# Altium integrated library TI Power Management Supervisor and Reset IC.IntLib: 819 symbols (part 6 of 30)
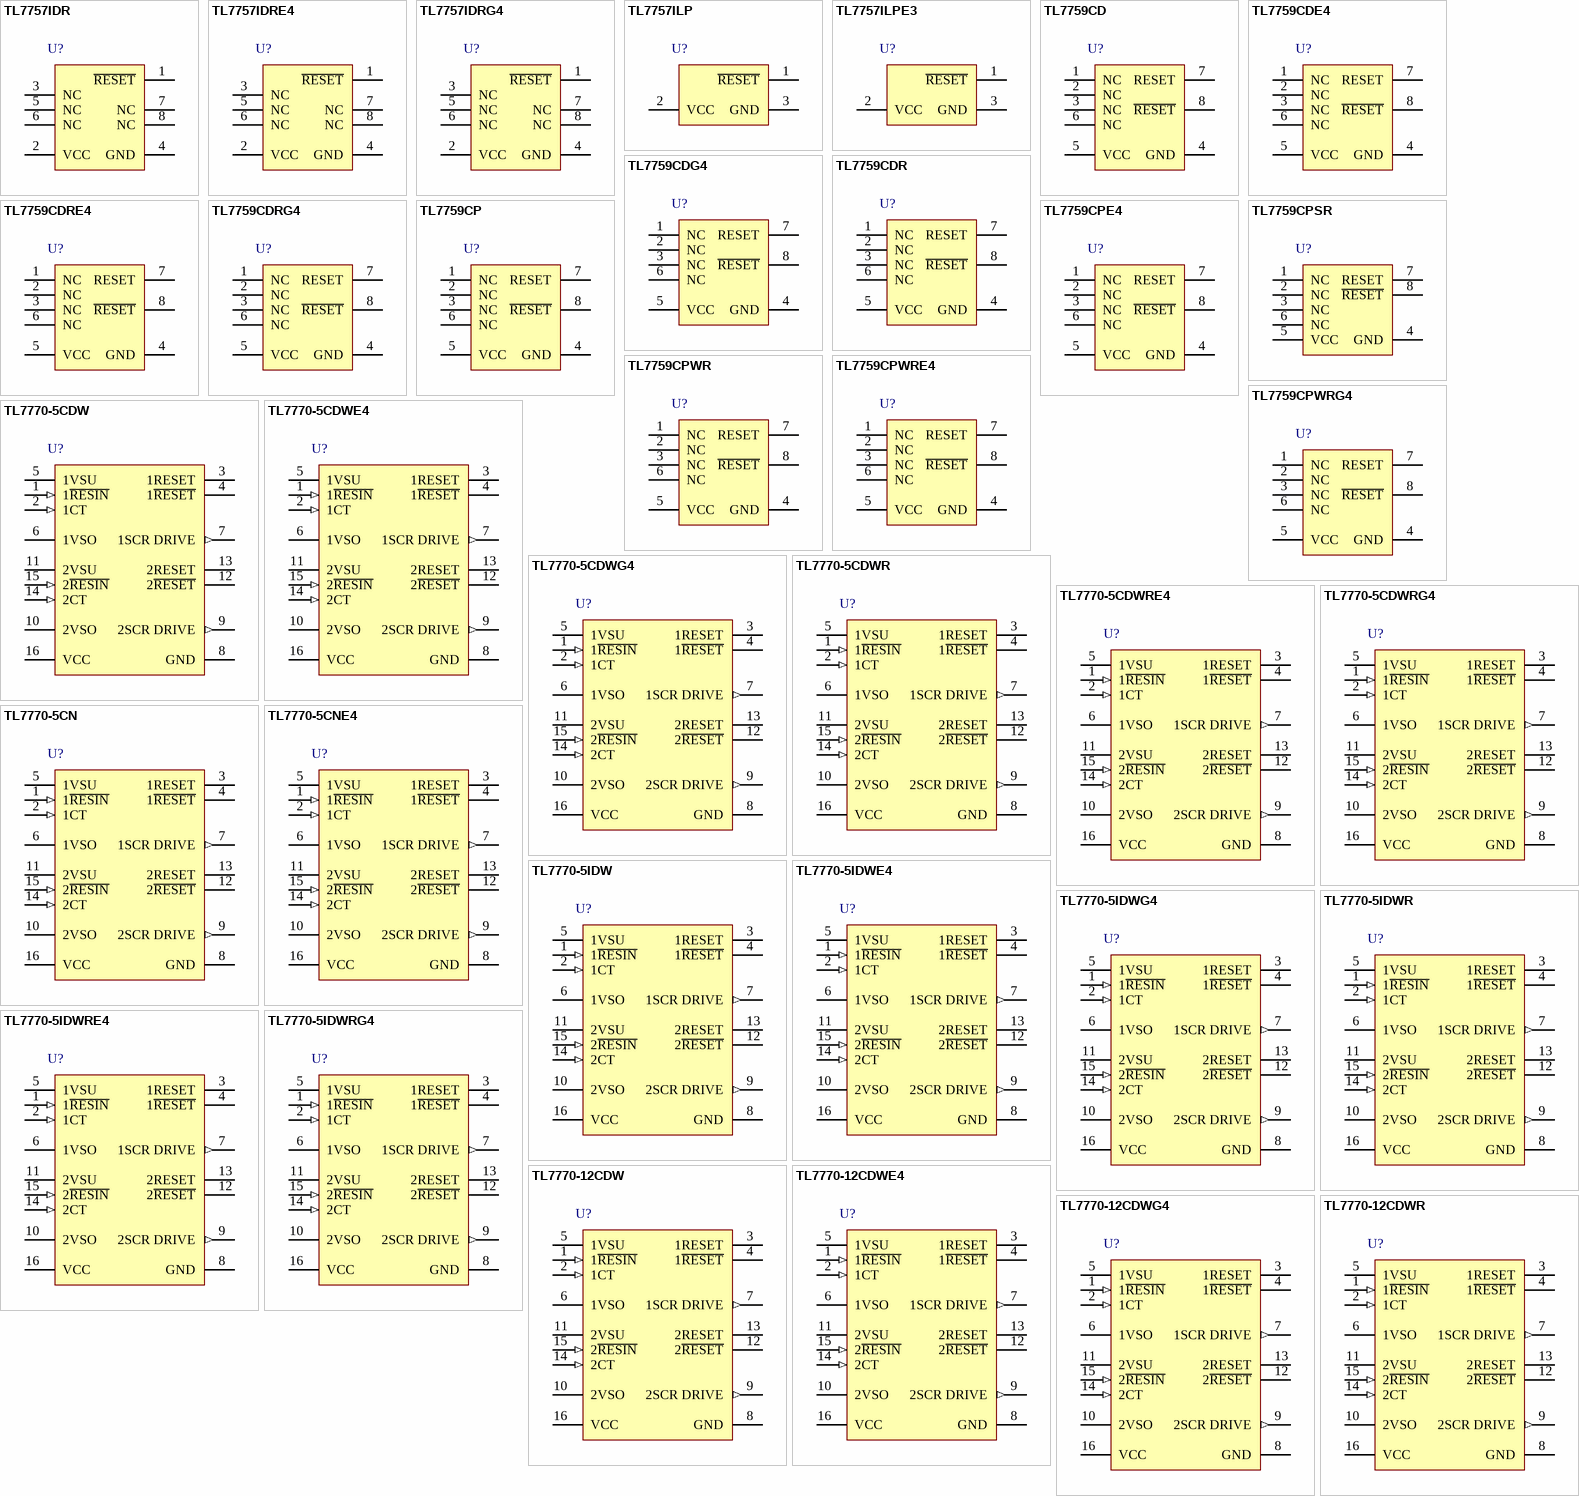
[diagram p26: symbols TL7757IDR to TL7770-12CDWR]

## TL7759CPE4
designator U?
4-Terminal Supply Voltage Supervisor for 5 V Systems, 1 Supply Monitored, 0 to 70 degC, 8-pin PDIP (P), Pb-Free (RoHS); Manufacturer: Texas Instruments; PartNumber: TL7759CPE4; # of supplies monitored: 1; Iq(Typ)(uA): 1400; Output Driver Type / Reset Output: Active-low, Open-drain, Active-high, Open-drain; Rating: Catalog; Reset Threshold Accuracy(%): 2.6; SubFamily: Supervisor and Reset IC; Threshold Voltage 1 (typ)(Typ)(V): 4.55; VCC(Max)(V): 7; DatasheetVersion: SLVS042D; PackageVersion: revE, Apr-2010; PackageReference: P8; PackageDescription: 8-Pin Plastic Dual-In-Line Package, Row Spacing 7.62 mm, Pitch 2.54 mm; Supplier 1: Digi-Key; Supplier Part Number 1: TL7759CPE4-ND; Supplier 2: Newark; Supplier Part Number 2: 63K6539; Supplier 3: Mouser; Supplier Part Number 3: 595-TL7759CPE4; VCC(Min)(V): 1; Mounting Technology: Through Hole; Code_JEDEC: MS-001-BA; ComponentLink1Description: Datasheet; ComponentLink1URL: http://www.ti.com/general/docs/lit/getliterature.tsp?genericPartNumber=TL7759&fileType=pdf
footprint P8 (DIP, 8-Leads, Row Spacing 7.62mm, Pitch 2.54mm, Body 9.6x6.4mm)
pins: 1 NC, 2 NC, 3 NC, 4 GND (power), 5 VCC (power), 6 NC, 7 RESET (oe), 8 ~{RESET} (oc)

## TL7759CPSR
designator U?
4-Terminal Supply Voltage Supervisor for 5 V Systems, 1 Supply Monitored, 0 to 70 degC, 8-pin SO (PS), Green (RoHS & no Sb/Br); Manufacturer: Texas Instruments; PartNumber: TL7759CPSR; # of supplies monitored: 1; Iq(Typ)(uA): 1400; Output Driver Type / Reset Output: Active-low, Open-drain, Active-high, Open-drain; Rating: Catalog; Reset Threshold Accuracy(%): 2.6; SubFamily: Supervisor and Reset IC; Threshold Voltage 1 (typ)(Typ)(V): 4.55; VCC(Max)(V): 7; DatasheetVersion: SLVS042D; PackageVersion: revC, Mar-2003; PackageReference: PS8; PackageDescription: 8-Pin Plastic Small Outline Package, 6.2 x 5.3 mm, Pitch 1.27 mm Pitch; Supplier 1: Digi-Key; Supplier Part Number 1: 296-29984-2-ND; Supplier 2: Digi-Key; Supplier Part Number 2: 296-29984-1-ND; Supplier 3: Digi-Key; Supplier Part Number 3: 296-29984-6-ND; Supplier 4: Newark; Supplier Part Number 4: 22H1304; Supplier 5: Mouser; Supplier Part Number 5: 595-TL7759CPSR; VCC(Min)(V): 1; Mounting Technology: Surface Mount; ComponentLink1Description: Datasheet; ComponentLink1URL: http://www.ti.com/general/docs/lit/getliterature.tsp?genericPartNumber=TL7759&fileType=pdf
footprint PS8_N (SOP, 8-Leads, Body 6.2x5.3mm, Pitch 1.27mm, IPC Medium Density)
footprint PS8_L (SOP, 8-Leads, Body 6.2x5.3mm, Pitch 1.27mm, IPC High Density)
footprint PS8_M (SOP, 8-Leads, Body 6.2x5.3mm, Pitch 1.27mm, IPC Low Density)
pins: 1 NC, 2 NC, 3 NC, 4 GND (power), 5 VCC (power), 6 NC, 7 RESET (oe), 8 ~{RESET} (oc)

## TL7759CPWR
designator U?
4-Terminal Supply Voltage Supervisor for 5 V Systems, 1 Supply Monitored, 0 to 70 degC, 8-pin TSSOP (PW), Green (RoHS & no Sb/Br); Manufacturer: Texas Instruments; PartNumber: TL7759CPWR; # of supplies monitored: 1; Iq(Typ)(uA): 1400; Output Driver Type / Reset Output: Active-low, Open-drain, Active-high, Open-drain; Rating: Catalog; Reset Threshold Accuracy(%): 2.6; SubFamily: Supervisor and Reset IC; Threshold Voltage 1 (typ)(Typ)(V): 4.55; Time Delay(ms): 0; VCC(Max)(V): 7; DatasheetVersion: SLVS042D; PackageVersion: revG, Feb-2011; PackageReference: PW8; PackageDescription: 8-Pin Plastic Thin Small Outline Package 3 x 4.4 mm Body ,0.65 mm Pitch; Supplier 1: Digi-Key; Supplier Part Number 1: 296-1299-2-ND; Supplier 2: Digi-Key; Supplier Part Number 2: 296-1299-1-ND; Supplier 3: Digi-Key; Supplier Part Number 3: 296-1299-6-ND; Supplier 4: Mouser; Supplier Part Number 4: 595-TL7759CPWR; VCC(Min)(V): 1; Mounting Technology: Surface Mount; Code_JEDEC: MO-153; ComponentLink1Description: Datasheet; ComponentLink1URL: http://www.ti.com/general/docs/lit/getliterature.tsp?genericPartNumber=TL7759&fileType=pdf
footprint PW8_N (TSOP, 8-Leads, Body 3x4.4mm, Pitch 0.65mm, IPC Medium Density)
footprint PW8_L (TSOP, 8-Leads, Body 3x4.4mm, Pitch 0.65mm, IPC High Density)
footprint PW8_M (TSOP, 8-Leads, Body 3x4.4mm, Pitch 0.65mm, IPC Low Density)
pins: 1 NC, 2 NC, 3 NC, 4 GND (power), 5 VCC (power), 6 NC, 7 RESET (oe), 8 ~{RESET} (oc)

## TL7759CPWRE4
designator U?
4-Terminal Supply Voltage Supervisor for 5 V Systems, 1 Supply Monitored, 0 to 70 degC, 8-pin TSSOP (PW), Green (RoHS & no Sb/Br); Manufacturer: Texas Instruments; PartNumber: TL7759CPWRE4; # of supplies monitored: 1; Iq(Typ)(uA): 1400; Output Driver Type / Reset Output: Active-low, Open-drain, Active-high, Open-drain; Rating: Catalog; Reset Threshold Accuracy(%): 2.6; SubFamily: Supervisor and Reset IC; Threshold Voltage 1 (typ)(Typ)(V): 4.55; Time Delay(ms): 0; VCC(Max)(V): 7; DatasheetVersion: SLVS042D; PackageVersion: revG, Feb-2011; PackageReference: PW8; PackageDescription: 8-Pin Plastic Thin Small Outline Package 3 x 4.4 mm Body ,0.65 mm Pitch; Supplier 1: Digi-Key; Supplier Part Number 1: TL7759CPWRE4-ND; Supplier 2: Newark; Supplier Part Number 2: 33K7484; Supplier 3: Mouser; Supplier Part Number 3: 595-TL7759CPWRE4; VCC(Min)(V): 1; Mounting Technology: Surface Mount; Code_JEDEC: MO-153; ComponentLink1Description: Datasheet; ComponentLink1URL: http://www.ti.com/general/docs/lit/getliterature.tsp?genericPartNumber=TL7759&fileType=pdf
footprint PW8_N (TSOP, 8-Leads, Body 3x4.4mm, Pitch 0.65mm, IPC Medium Density)
footprint PW8_L (TSOP, 8-Leads, Body 3x4.4mm, Pitch 0.65mm, IPC High Density)
footprint PW8_M (TSOP, 8-Leads, Body 3x4.4mm, Pitch 0.65mm, IPC Low Density)
pins: 1 NC, 2 NC, 3 NC, 4 GND (power), 5 VCC (power), 6 NC, 7 RESET (oe), 8 ~{RESET} (oc)

## TL7759CPWRG4
designator U?
4-Terminal Supply Voltage Supervisor for 5 V Systems, 1 Supply Monitored, 0 to 70 degC, 8-pin TSSOP (PW), Green (RoHS & no Sb/Br); Manufacturer: Texas Instruments; PartNumber: TL7759CPWRG4; # of supplies monitored: 1; Iq(Typ)(uA): 1400; Output Driver Type / Reset Output: Active-low, Open-drain, Active-high, Open-drain; Rating: Catalog; Reset Threshold Accuracy(%): 2.6; SubFamily: Supervisor and Reset IC; Threshold Voltage 1 (typ)(Typ)(V): 4.55; Time Delay(ms): 0; VCC(Max)(V): 7; DatasheetVersion: SLVS042D; PackageVersion: revG, Feb-2011; PackageReference: PW8; PackageDescription: 8-Pin Plastic Thin Small Outline Package 3 x 4.4 mm Body ,0.65 mm Pitch; Supplier 1: Digi-Key; Supplier Part Number 1: TL7759CPWRG4-ND; Supplier 2: Newark; Supplier Part Number 2: 46M9300; Supplier 3: Mouser; Supplier Part Number 3: 595-TL7759CPWRG4; VCC(Min)(V): 1; Mounting Technology: Surface Mount; Code_JEDEC: MO-153; ComponentLink1Description: Datasheet; ComponentLink1URL: http://www.ti.com/general/docs/lit/getliterature.tsp?genericPartNumber=TL7759&fileType=pdf
footprint PW8_N (TSOP, 8-Leads, Body 3x4.4mm, Pitch 0.65mm, IPC Medium Density)
footprint PW8_L (TSOP, 8-Leads, Body 3x4.4mm, Pitch 0.65mm, IPC High Density)
footprint PW8_M (TSOP, 8-Leads, Body 3x4.4mm, Pitch 0.65mm, IPC Low Density)
pins: 1 NC, 2 NC, 3 NC, 4 GND (power), 5 VCC (power), 6 NC, 7 RESET (oe), 8 ~{RESET} (oc)

## TL7770-5CDW
designator U?
Dual Power-Supply Supervisor, 5 V & Adjustable with Programmable Time Delay, 0 to 70 degC, 16-pin SOIC (DW), Green (RoHS & no Sb/Br); Manufacturer: Texas Instruments; PartNumber: TL7770-5CDW; # of supplies monitored: 2; Iq(Typ)(uA): 5000; Output Driver Type / Reset Output: Active-low, Open-drain; Rating: Military; SubFamily: Supervisor and Reset IC; Threshold Voltage 1 (typ)(Typ)(V): 4.55; Threshold Voltage 2 (typ)(Typ)(V): 1.5; VCC(Max)(V): 18; VCC(Min)(V): 3.5; DatasheetVersion: SLVS019F; PackageVersion: revG, Jan-2011; PackageReference: DW16; PackageDescription: 16-Pin Small Outline Integrated Circuit, 10.3 x 7.5 mm, Pitch 1.27 mm Pitch; Supplier 1: Digi-Key; Supplier Part Number 1: 296-3265-5-ND; Supplier 2: Newark; Supplier Part Number 2: 76C9386; Supplier 3: Mouser; Supplier Part Number 3: 595-TL7770-5CDW; Reset Threshold Accuracy(%): 2; Time Delay(ms): Programmable; Mounting Technology: Surface Mount; Code_JEDEC: MS-013-AA; ComponentLink1Description: Datasheet; ComponentLink1URL: http://www.ti.com/general/docs/lit/getliterature.tsp?genericPartNumber=TL7770-5&fileType=pdf
footprint DW16_N (SOIC, 16-Leads, Body 10.3x7.5mm, Pitch 1.27mm, IPC Medium Density)
footprint DW16_L (SOIC, 16-Leads, Body 10.3x7.5mm, Pitch 1.27mm, IPC High Density)
footprint DW16_M (SOIC, 16-Leads, Body 10.3x7.5mm, Pitch 1.27mm, IPC Low Density)
pins: 1 1~{RESIN} (in), 2 1CT (in), 3 1RESET (oe), 4 1~{RESET} (oc), 5 1VSU (power), 6 1VSO (power), 7 1SCR DRIVE (out), 8 GND (power), 9 2SCR DRIVE (out), 10 2VSO (power), 11 2VSU (power), 12 2~{RESET} (oc), 13 2RESET (oe), 14 2CT (in), 15 2~{RESIN} (in), 16 VCC (power)

## TL7770-5CDWE4
designator U?
Dual Power-Supply Supervisor, 5 V & Adjustable with Programmable Time Delay, 0 to 70 degC, 16-pin SOIC (DW), Green (RoHS & no Sb/Br); Manufacturer: Texas Instruments; PartNumber: TL7770-5CDWE4; # of supplies monitored: 2; Iq(Typ)(uA): 5000; Output Driver Type / Reset Output: Active-low, Open-drain; Rating: Military; SubFamily: Supervisor and Reset IC; Threshold Voltage 1 (typ)(Typ)(V): 4.55; Threshold Voltage 2 (typ)(Typ)(V): 1.5; VCC(Max)(V): 18; VCC(Min)(V): 3.5; DatasheetVersion: SLVS019F; PackageVersion: revG, Jan-2011; PackageReference: DW16; PackageDescription: 16-Pin Small Outline Integrated Circuit, 10.3 x 7.5 mm, Pitch 1.27 mm Pitch; Supplier 1: Digi-Key; Supplier Part Number 1: TL7770-5CDWE4-ND; Supplier 2: Newark; Supplier Part Number 2: 37K4617; Supplier 3: Mouser; Supplier Part Number 3: 595-TL7770-5CDWE4; Reset Threshold Accuracy(%): 2; Time Delay(ms): Programmable; Mounting Technology: Surface Mount; Code_JEDEC: MS-013-AA; ComponentLink1Description: Datasheet; ComponentLink1URL: http://www.ti.com/general/docs/lit/getliterature.tsp?genericPartNumber=TL7770-5&fileType=pdf
footprint DW16_N (SOIC, 16-Leads, Body 10.3x7.5mm, Pitch 1.27mm, IPC Medium Density)
footprint DW16_L (SOIC, 16-Leads, Body 10.3x7.5mm, Pitch 1.27mm, IPC High Density)
footprint DW16_M (SOIC, 16-Leads, Body 10.3x7.5mm, Pitch 1.27mm, IPC Low Density)
pins: 1 1~{RESIN} (in), 2 1CT (in), 3 1RESET (oe), 4 1~{RESET} (oc), 5 1VSU (power), 6 1VSO (power), 7 1SCR DRIVE (out), 8 GND (power), 9 2SCR DRIVE (out), 10 2VSO (power), 11 2VSU (power), 12 2~{RESET} (oc), 13 2RESET (oe), 14 2CT (in), 15 2~{RESIN} (in), 16 VCC (power)

## TL7770-5CDWG4
designator U?
Dual Power-Supply Supervisor, 5 V & Adjustable with Programmable Time Delay, 0 to 70 degC, 16-pin SOIC (DW), Green (RoHS & no Sb/Br); Manufacturer: Texas Instruments; PartNumber: TL7770-5CDWG4; # of supplies monitored: 2; Iq(Typ)(uA): 5000; Output Driver Type / Reset Output: Active-low, Open-drain; Rating: Military; SubFamily: Supervisor and Reset IC; Threshold Voltage 1 (typ)(Typ)(V): 4.55; Threshold Voltage 2 (typ)(Typ)(V): 1.5; VCC(Max)(V): 18; VCC(Min)(V): 3.5; DatasheetVersion: SLVS019F; PackageVersion: revG, Jan-2011; PackageReference: DW16; PackageDescription: 16-Pin Small Outline Integrated Circuit, 10.3 x 7.5 mm, Pitch 1.27 mm Pitch; Supplier 1: Digi-Key; Supplier Part Number 1: TL7770-5CDWG4-ND; Supplier 2: Newark; Supplier Part Number 2: 46M1065; Supplier 3: Mouser; Supplier Part Number 3: 595-TL7770-5CDWG4; Reset Threshold Accuracy(%): 2; Time Delay(ms): Programmable; Mounting Technology: Surface Mount; Code_JEDEC: MS-013-AA; ComponentLink1Description: Datasheet; ComponentLink1URL: http://www.ti.com/general/docs/lit/getliterature.tsp?genericPartNumber=TL7770-5&fileType=pdf
footprint DW16_N (SOIC, 16-Leads, Body 10.3x7.5mm, Pitch 1.27mm, IPC Medium Density)
footprint DW16_L (SOIC, 16-Leads, Body 10.3x7.5mm, Pitch 1.27mm, IPC High Density)
footprint DW16_M (SOIC, 16-Leads, Body 10.3x7.5mm, Pitch 1.27mm, IPC Low Density)
pins: 1 1~{RESIN} (in), 2 1CT (in), 3 1RESET (oe), 4 1~{RESET} (oc), 5 1VSU (power), 6 1VSO (power), 7 1SCR DRIVE (out), 8 GND (power), 9 2SCR DRIVE (out), 10 2VSO (power), 11 2VSU (power), 12 2~{RESET} (oc), 13 2RESET (oe), 14 2CT (in), 15 2~{RESIN} (in), 16 VCC (power)

## TL7770-5CDWR
designator U?
Dual Power-Supply Supervisor, 5 V & Adjustable with Programmable Time Delay, 0 to 70 degC, 16-pin SOIC (DW), Green (RoHS & no Sb/Br); Manufacturer: Texas Instruments; PartNumber: TL7770-5CDWR; # of supplies monitored: 2; Iq(Typ)(uA): 5000; Output Driver Type / Reset Output: Active-low, Open-drain; Rating: Military; SubFamily: Supervisor and Reset IC; Threshold Voltage 1 (typ)(Typ)(V): 4.55; Threshold Voltage 2 (typ)(Typ)(V): 1.5; VCC(Max)(V): 18; VCC(Min)(V): 3.5; DatasheetVersion: SLVS019F; PackageVersion: revG, Jan-2011; PackageReference: DW16; PackageDescription: 16-Pin Small Outline Integrated Circuit, 10.3 x 7.5 mm, Pitch 1.27 mm Pitch; Supplier 1: Digi-Key; Supplier Part Number 1: 296-15024-2-ND; Supplier 2: Digi-Key; Supplier Part Number 2: 296-15024-1-ND; Supplier 3: Digi-Key; Supplier Part Number 3: 296-15024-6-ND; Supplier 4: Newark; Supplier Part Number 4: 76C9387; Supplier 5: Mouser; Supplier Part Number 5: 595-TL7770-5CDWR; Reset Threshold Accuracy(%): 2; Time Delay(ms): Programmable; Mounting Technology: Surface Mount; Code_JEDEC: MS-013-AA; ComponentLink1Description: Datasheet; ComponentLink1URL: http://www.ti.com/general/docs/lit/getliterature.tsp?genericPartNumber=TL7770-5&fileType=pdf
footprint DW16_N (SOIC, 16-Leads, Body 10.3x7.5mm, Pitch 1.27mm, IPC Medium Density)
footprint DW16_L (SOIC, 16-Leads, Body 10.3x7.5mm, Pitch 1.27mm, IPC High Density)
footprint DW16_M (SOIC, 16-Leads, Body 10.3x7.5mm, Pitch 1.27mm, IPC Low Density)
pins: 1 1~{RESIN} (in), 2 1CT (in), 3 1RESET (oe), 4 1~{RESET} (oc), 5 1VSU (power), 6 1VSO (power), 7 1SCR DRIVE (out), 8 GND (power), 9 2SCR DRIVE (out), 10 2VSO (power), 11 2VSU (power), 12 2~{RESET} (oc), 13 2RESET (oe), 14 2CT (in), 15 2~{RESIN} (in), 16 VCC (power)

## TL7770-5CDWRE4
designator U?
Dual Power-Supply Supervisor, 5 V & Adjustable with Programmable Time Delay, 0 to 70 degC, 16-pin SOIC (DW), Green (RoHS & no Sb/Br); Manufacturer: Texas Instruments; PartNumber: TL7770-5CDWRE4; # of supplies monitored: 2; Iq(Typ)(uA): 5000; Output Driver Type / Reset Output: Active-low, Open-drain; Rating: Military; SubFamily: Supervisor and Reset IC; Threshold Voltage 1 (typ)(Typ)(V): 4.55; Threshold Voltage 2 (typ)(Typ)(V): 1.5; VCC(Max)(V): 18; VCC(Min)(V): 3.5; DatasheetVersion: SLVS019F; PackageVersion: revG, Jan-2011; PackageReference: DW16; PackageDescription: 16-Pin Small Outline Integrated Circuit, 10.3 x 7.5 mm, Pitch 1.27 mm Pitch; Supplier 1: Digi-Key; Supplier Part Number 1: TL7770-5CDWRE4-ND; Supplier 2: Newark; Supplier Part Number 2: 37K4618; Supplier 3: Mouser; Supplier Part Number 3: 595-TL7770-5CDWRE4; Reset Threshold Accuracy(%): 2; Time Delay(ms): Programmable; Mounting Technology: Surface Mount; Code_JEDEC: MS-013-AA; ComponentLink1Description: Datasheet; ComponentLink1URL: http://www.ti.com/general/docs/lit/getliterature.tsp?genericPartNumber=TL7770-5&fileType=pdf
footprint DW16_N (SOIC, 16-Leads, Body 10.3x7.5mm, Pitch 1.27mm, IPC Medium Density)
footprint DW16_L (SOIC, 16-Leads, Body 10.3x7.5mm, Pitch 1.27mm, IPC High Density)
footprint DW16_M (SOIC, 16-Leads, Body 10.3x7.5mm, Pitch 1.27mm, IPC Low Density)
pins: 1 1~{RESIN} (in), 2 1CT (in), 3 1RESET (oe), 4 1~{RESET} (oc), 5 1VSU (power), 6 1VSO (power), 7 1SCR DRIVE (out), 8 GND (power), 9 2SCR DRIVE (out), 10 2VSO (power), 11 2VSU (power), 12 2~{RESET} (oc), 13 2RESET (oe), 14 2CT (in), 15 2~{RESIN} (in), 16 VCC (power)

## TL7770-5CDWRG4
designator U?
Dual Power-Supply Supervisor, 5 V & Adjustable with Programmable Time Delay, 0 to 70 degC, 16-pin SOIC (DW), Green (RoHS & no Sb/Br); Manufacturer: Texas Instruments; PartNumber: TL7770-5CDWRG4; # of supplies monitored: 2; Iq(Typ)(uA): 5000; Output Driver Type / Reset Output: Active-low, Open-drain; Rating: Military; SubFamily: Supervisor and Reset IC; Threshold Voltage 1 (typ)(Typ)(V): 4.55; Threshold Voltage 2 (typ)(Typ)(V): 1.5; VCC(Max)(V): 18; VCC(Min)(V): 3.5; DatasheetVersion: SLVS019F; PackageVersion: revG, Jan-2011; PackageReference: DW16; PackageDescription: 16-Pin Small Outline Integrated Circuit, 10.3 x 7.5 mm, Pitch 1.27 mm Pitch; Supplier 1: Digi-Key; Supplier Part Number 1: TL7770-5CDWRG4-ND; Supplier 2: Newark; Supplier Part Number 2: 46M1066; Supplier 3: Mouser; Supplier Part Number 3: 595-TL7770-5CDWRG4; Reset Threshold Accuracy(%): 2; Time Delay(ms): Programmable; Mounting Technology: Surface Mount; Code_JEDEC: MS-013-AA; ComponentLink1Description: Datasheet; ComponentLink1URL: http://www.ti.com/general/docs/lit/getliterature.tsp?genericPartNumber=TL7770-5&fileType=pdf
footprint DW16_N (SOIC, 16-Leads, Body 10.3x7.5mm, Pitch 1.27mm, IPC Medium Density)
footprint DW16_L (SOIC, 16-Leads, Body 10.3x7.5mm, Pitch 1.27mm, IPC High Density)
footprint DW16_M (SOIC, 16-Leads, Body 10.3x7.5mm, Pitch 1.27mm, IPC Low Density)
pins: 1 1~{RESIN} (in), 2 1CT (in), 3 1RESET (oe), 4 1~{RESET} (oc), 5 1VSU (power), 6 1VSO (power), 7 1SCR DRIVE (out), 8 GND (power), 9 2SCR DRIVE (out), 10 2VSO (power), 11 2VSU (power), 12 2~{RESET} (oc), 13 2RESET (oe), 14 2CT (in), 15 2~{RESIN} (in), 16 VCC (power)

## TL7770-5CN
designator U?
Dual Power-Supply Supervisor, 5 V & Adjustable with Programmable Time Delay, 0 to 70 degC, 16-pin PDIP (N), Pb-Free (RoHS); Manufacturer: Texas Instruments; PartNumber: TL7770-5CN; # of supplies monitored: 2; Iq(Typ)(uA): 5000; Output Driver Type / Reset Output: Active-low, Open-drain; Rating: Military; SubFamily: Supervisor and Reset IC; Threshold Voltage 1 (typ)(Typ)(V): 4.55; Threshold Voltage 2 (typ)(Typ)(V): 1.5; VCC(Max)(V): 18; VCC(Min)(V): 3.5; DatasheetVersion: SLVS019F; PackageVersion: revE, Dec-2002; PackageReference: N16; PackageDescription: 16-Pin Plastic Dual-In-Line Package, Row Spacing 7.62 mm, Pitch 2.54 mm; Supplier 1: Digi-Key; Supplier Part Number 1: 296-3266-5-ND; Supplier 2: Newark; Supplier Part Number 2: 76C9388; Supplier 3: Mouser; Supplier Part Number 3: 595-TL7770-5CN; Reset Threshold Accuracy(%): 2; Time Delay(ms): Programmable; Mounting Technology: Through Hole; Code_JEDEC: MS-001*; ComponentLink1Description: Datasheet; ComponentLink1URL: http://www.ti.com/general/docs/lit/getliterature.tsp?genericPartNumber=TL7770-5&fileType=pdf
footprint N16 (DIP, 16-Leads, Row Spacing 7.62mm, Pitch 2.54mm, Body 19.3x6.4mm)
pins: 1 1~{RESIN} (in), 2 1CT (in), 3 1RESET (oe), 4 1~{RESET} (oc), 5 1VSU (power), 6 1VSO (power), 7 1SCR DRIVE (out), 8 GND (power), 9 2SCR DRIVE (out), 10 2VSO (power), 11 2VSU (power), 12 2~{RESET} (oc), 13 2RESET (oe), 14 2CT (in), 15 2~{RESIN} (in), 16 VCC (power)

## TL7770-5CNE4
designator U?
Dual Power-Supply Supervisor, 5 V & Adjustable with Programmable Time Delay, 0 to 70 degC, 16-pin PDIP (N), Pb-Free (RoHS); Manufacturer: Texas Instruments; PartNumber: TL7770-5CNE4; # of supplies monitored: 2; Iq(Typ)(uA): 5000; Output Driver Type / Reset Output: Active-low, Open-drain; Rating: Military; SubFamily: Supervisor and Reset IC; Threshold Voltage 1 (typ)(Typ)(V): 4.55; Threshold Voltage 2 (typ)(Typ)(V): 1.5; VCC(Max)(V): 18; VCC(Min)(V): 3.5; DatasheetVersion: SLVS019F; PackageVersion: revE, Dec-2002; PackageReference: N16; PackageDescription: 16-Pin Plastic Dual-In-Line Package, Row Spacing 7.62 mm, Pitch 2.54 mm; Supplier 1: Digi-Key; Supplier Part Number 1: TL7770-5CNE4-ND; Supplier 2: Farnell; Supplier Part Number 2: 1214406; Supplier 3: Newark; Supplier Part Number 3: 37K4619; Supplier 4: Mouser; Supplier Part Number 4: 595-TL7770-5CNE4; Reset Threshold Accuracy(%): 2; Time Delay(ms): Programmable; Mounting Technology: Through Hole; Code_JEDEC: MS-001*; ComponentLink1Description: Datasheet; ComponentLink1URL: http://www.ti.com/general/docs/lit/getliterature.tsp?genericPartNumber=TL7770-5&fileType=pdf
footprint N16 (DIP, 16-Leads, Row Spacing 7.62mm, Pitch 2.54mm, Body 19.3x6.4mm)
pins: 1 1~{RESIN} (in), 2 1CT (in), 3 1RESET (oe), 4 1~{RESET} (oc), 5 1VSU (power), 6 1VSO (power), 7 1SCR DRIVE (out), 8 GND (power), 9 2SCR DRIVE (out), 10 2VSO (power), 11 2VSU (power), 12 2~{RESET} (oc), 13 2RESET (oe), 14 2CT (in), 15 2~{RESIN} (in), 16 VCC (power)

## TL7770-5IDW
designator U?
Dual Power-Supply Supervisor, 5 V & Adjustable with Programmable Time Delay, -40 to 85 degC, 16-pin SOIC (DW), Green (RoHS & no Sb/Br); Manufacturer: Texas Instruments; PartNumber: TL7770-5IDW; # of supplies monitored: 2; Iq(Typ)(uA): 5000; Output Driver Type / Reset Output: Active-low, Open-drain; Rating: Military; SubFamily: Supervisor and Reset IC; Threshold Voltage 1 (typ)(Typ)(V): 4.55; Threshold Voltage 2 (typ)(Typ)(V): 1.5; VCC(Max)(V): 18; VCC(Min)(V): 3.5; DatasheetVersion: SLVS019F; PackageVersion: revG, Jan-2011; PackageReference: DW16; PackageDescription: 16-Pin Small Outline Integrated Circuit, 10.3 x 7.5 mm, Pitch 1.27 mm Pitch; Supplier 1: Digi-Key; Supplier Part Number 1: 296-3267-5-ND; Supplier 2: Newark; Supplier Part Number 2: 76C9389; Supplier 3: Mouser; Supplier Part Number 3: 595-TL7770-5IDW; Reset Threshold Accuracy(%): 2; Time Delay(ms): Programmable; Mounting Technology: Surface Mount; Code_JEDEC: MS-013-AA; ComponentLink1Description: Datasheet; ComponentLink1URL: http://www.ti.com/general/docs/lit/getliterature.tsp?genericPartNumber=TL7770-5&fileType=pdf
footprint DW16_N (SOIC, 16-Leads, Body 10.3x7.5mm, Pitch 1.27mm, IPC Medium Density)
footprint DW16_L (SOIC, 16-Leads, Body 10.3x7.5mm, Pitch 1.27mm, IPC High Density)
footprint DW16_M (SOIC, 16-Leads, Body 10.3x7.5mm, Pitch 1.27mm, IPC Low Density)
pins: 1 1~{RESIN} (in), 2 1CT (in), 3 1RESET (oe), 4 1~{RESET} (oc), 5 1VSU (power), 6 1VSO (power), 7 1SCR DRIVE (out), 8 GND (power), 9 2SCR DRIVE (out), 10 2VSO (power), 11 2VSU (power), 12 2~{RESET} (oc), 13 2RESET (oe), 14 2CT (in), 15 2~{RESIN} (in), 16 VCC (power)

## TL7770-5IDWE4
designator U?
Dual Power-Supply Supervisor, 5 V & Adjustable with Programmable Time Delay, -40 to 85 degC, 16-pin SOIC (DW), Green (RoHS & no Sb/Br); Manufacturer: Texas Instruments; PartNumber: TL7770-5IDWE4; # of supplies monitored: 2; Iq(Typ)(uA): 5000; Output Driver Type / Reset Output: Active-low, Open-drain; Rating: Military; SubFamily: Supervisor and Reset IC; Threshold Voltage 1 (typ)(Typ)(V): 4.55; Threshold Voltage 2 (typ)(Typ)(V): 1.5; VCC(Max)(V): 18; VCC(Min)(V): 3.5; DatasheetVersion: SLVS019F; PackageVersion: revG, Jan-2011; PackageReference: DW16; PackageDescription: 16-Pin Small Outline Integrated Circuit, 10.3 x 7.5 mm, Pitch 1.27 mm Pitch; Supplier 1: Digi-Key; Supplier Part Number 1: TL7770-5IDWE4-ND; Supplier 2: Newark; Supplier Part Number 2: 37K4620; Supplier 3: Mouser; Supplier Part Number 3: 595-TL7770-5IDWE4; Reset Threshold Accuracy(%): 2; Time Delay(ms): Programmable; Mounting Technology: Surface Mount; Code_JEDEC: MS-013-AA; ComponentLink1Description: Datasheet; ComponentLink1URL: http://www.ti.com/general/docs/lit/getliterature.tsp?genericPartNumber=TL7770-5&fileType=pdf
footprint DW16_N (SOIC, 16-Leads, Body 10.3x7.5mm, Pitch 1.27mm, IPC Medium Density)
footprint DW16_L (SOIC, 16-Leads, Body 10.3x7.5mm, Pitch 1.27mm, IPC High Density)
footprint DW16_M (SOIC, 16-Leads, Body 10.3x7.5mm, Pitch 1.27mm, IPC Low Density)
pins: 1 1~{RESIN} (in), 2 1CT (in), 3 1RESET (oe), 4 1~{RESET} (oc), 5 1VSU (power), 6 1VSO (power), 7 1SCR DRIVE (out), 8 GND (power), 9 2SCR DRIVE (out), 10 2VSO (power), 11 2VSU (power), 12 2~{RESET} (oc), 13 2RESET (oe), 14 2CT (in), 15 2~{RESIN} (in), 16 VCC (power)

## TL7770-5IDWG4
designator U?
Dual Power-Supply Supervisor, 5 V & Adjustable with Programmable Time Delay, -40 to 85 degC, 16-pin SOIC (DW), Green (RoHS & no Sb/Br); Manufacturer: Texas Instruments; PartNumber: TL7770-5IDWG4; # of supplies monitored: 2; Iq(Typ)(uA): 5000; Output Driver Type / Reset Output: Active-low, Open-drain; Rating: Military; SubFamily: Supervisor and Reset IC; Threshold Voltage 1 (typ)(Typ)(V): 4.55; Threshold Voltage 2 (typ)(Typ)(V): 1.5; VCC(Max)(V): 18; VCC(Min)(V): 3.5; DatasheetVersion: SLVS019F; PackageVersion: revG, Jan-2011; PackageReference: DW16; PackageDescription: 16-Pin Small Outline Integrated Circuit, 10.3 x 7.5 mm, Pitch 1.27 mm Pitch; Supplier 1: Digi-Key; Supplier Part Number 1: TL7770-5IDWG4-ND; Supplier 2: Newark; Supplier Part Number 2: 46M1067; Supplier 3: Mouser; Supplier Part Number 3: 595-TL7770-5IDWG4; Reset Threshold Accuracy(%): 2; Time Delay(ms): Programmable; Mounting Technology: Surface Mount; Code_JEDEC: MS-013-AA; ComponentLink1Description: Datasheet; ComponentLink1URL: http://www.ti.com/general/docs/lit/getliterature.tsp?genericPartNumber=TL7770-5&fileType=pdf
footprint DW16_N (SOIC, 16-Leads, Body 10.3x7.5mm, Pitch 1.27mm, IPC Medium Density)
footprint DW16_L (SOIC, 16-Leads, Body 10.3x7.5mm, Pitch 1.27mm, IPC High Density)
footprint DW16_M (SOIC, 16-Leads, Body 10.3x7.5mm, Pitch 1.27mm, IPC Low Density)
pins: 1 1~{RESIN} (in), 2 1CT (in), 3 1RESET (oe), 4 1~{RESET} (oc), 5 1VSU (power), 6 1VSO (power), 7 1SCR DRIVE (out), 8 GND (power), 9 2SCR DRIVE (out), 10 2VSO (power), 11 2VSU (power), 12 2~{RESET} (oc), 13 2RESET (oe), 14 2CT (in), 15 2~{RESIN} (in), 16 VCC (power)

## TL7770-5IDWR
designator U?
Dual Power-Supply Supervisor, 5 V & Adjustable with Programmable Time Delay, -40 to 85 degC, 16-pin SOIC (DW), Green (RoHS & no Sb/Br); Manufacturer: Texas Instruments; PartNumber: TL7770-5IDWR; # of supplies monitored: 2; Iq(Typ)(uA): 5000; Output Driver Type / Reset Output: Active-low, Open-drain; Rating: Military; SubFamily: Supervisor and Reset IC; Threshold Voltage 1 (typ)(Typ)(V): 4.55; Threshold Voltage 2 (typ)(Typ)(V): 1.5; VCC(Max)(V): 18; VCC(Min)(V): 3.5; DatasheetVersion: SLVS019F; PackageVersion: revG, Jan-2011; PackageReference: DW16; PackageDescription: 16-Pin Small Outline Integrated Circuit, 10.3 x 7.5 mm, Pitch 1.27 mm Pitch; Supplier 1: Digi-Key; Supplier Part Number 1: TL7770-5IDWR-ND; Supplier 2: Newark; Supplier Part Number 2: 50B7919; Supplier 3: Mouser; Supplier Part Number 3: 595-TL7770-5IDWR; Reset Threshold Accuracy(%): 2; Time Delay(ms): Programmable; Mounting Technology: Surface Mount; Code_JEDEC: MS-013-AA; ComponentLink1Description: Datasheet; ComponentLink1URL: http://www.ti.com/general/docs/lit/getliterature.tsp?genericPartNumber=TL7770-5&fileType=pdf
footprint DW16_N (SOIC, 16-Leads, Body 10.3x7.5mm, Pitch 1.27mm, IPC Medium Density)
footprint DW16_L (SOIC, 16-Leads, Body 10.3x7.5mm, Pitch 1.27mm, IPC High Density)
footprint DW16_M (SOIC, 16-Leads, Body 10.3x7.5mm, Pitch 1.27mm, IPC Low Density)
pins: 1 1~{RESIN} (in), 2 1CT (in), 3 1RESET (oe), 4 1~{RESET} (oc), 5 1VSU (power), 6 1VSO (power), 7 1SCR DRIVE (out), 8 GND (power), 9 2SCR DRIVE (out), 10 2VSO (power), 11 2VSU (power), 12 2~{RESET} (oc), 13 2RESET (oe), 14 2CT (in), 15 2~{RESIN} (in), 16 VCC (power)

## TL7770-5IDWRE4
designator U?
Dual Power-Supply Supervisor, 5 V & Adjustable with Programmable Time Delay, -40 to 85 degC, 16-pin SOIC (DW), Green (RoHS & no Sb/Br); Manufacturer: Texas Instruments; PartNumber: TL7770-5IDWRE4; # of supplies monitored: 2; Iq(Typ)(uA): 5000; Output Driver Type / Reset Output: Active-low, Open-drain; Rating: Military; SubFamily: Supervisor and Reset IC; Threshold Voltage 1 (typ)(Typ)(V): 4.55; Threshold Voltage 2 (typ)(Typ)(V): 1.5; VCC(Max)(V): 18; VCC(Min)(V): 3.5; DatasheetVersion: SLVS019F; PackageVersion: revG, Jan-2011; PackageReference: DW16; PackageDescription: 16-Pin Small Outline Integrated Circuit, 10.3 x 7.5 mm, Pitch 1.27 mm Pitch; Supplier 1: Digi-Key; Supplier Part Number 1: TL7770-5IDWRE4-ND; Supplier 2: Newark; Supplier Part Number 2: 37K4621; Supplier 3: Mouser; Supplier Part Number 3: 595-TL7770-5IDWRE4; Reset Threshold Accuracy(%): 2; Time Delay(ms): Programmable; Mounting Technology: Surface Mount; Code_JEDEC: MS-013-AA; ComponentLink1Description: Datasheet; ComponentLink1URL: http://www.ti.com/general/docs/lit/getliterature.tsp?genericPartNumber=TL7770-5&fileType=pdf
footprint DW16_N (SOIC, 16-Leads, Body 10.3x7.5mm, Pitch 1.27mm, IPC Medium Density)
footprint DW16_L (SOIC, 16-Leads, Body 10.3x7.5mm, Pitch 1.27mm, IPC High Density)
footprint DW16_M (SOIC, 16-Leads, Body 10.3x7.5mm, Pitch 1.27mm, IPC Low Density)
pins: 1 1~{RESIN} (in), 2 1CT (in), 3 1RESET (oe), 4 1~{RESET} (oc), 5 1VSU (power), 6 1VSO (power), 7 1SCR DRIVE (out), 8 GND (power), 9 2SCR DRIVE (out), 10 2VSO (power), 11 2VSU (power), 12 2~{RESET} (oc), 13 2RESET (oe), 14 2CT (in), 15 2~{RESIN} (in), 16 VCC (power)

## TL7770-5IDWRG4
designator U?
Dual Power-Supply Supervisor, 5 V & Adjustable with Programmable Time Delay, -40 to 85 degC, 16-pin SOIC (DW), Green (RoHS & no Sb/Br); Manufacturer: Texas Instruments; PartNumber: TL7770-5IDWRG4; # of supplies monitored: 2; Iq(Typ)(uA): 5000; Output Driver Type / Reset Output: Active-low, Open-drain; Rating: Military; SubFamily: Supervisor and Reset IC; Threshold Voltage 1 (typ)(Typ)(V): 4.55; Threshold Voltage 2 (typ)(Typ)(V): 1.5; VCC(Max)(V): 18; VCC(Min)(V): 3.5; DatasheetVersion: SLVS019F; PackageVersion: revG, Jan-2011; PackageReference: DW16; PackageDescription: 16-Pin Small Outline Integrated Circuit, 10.3 x 7.5 mm, Pitch 1.27 mm Pitch; Supplier 1: Digi-Key; Supplier Part Number 1: TL7770-5IDWRG4-ND; Supplier 2: Newark; Supplier Part Number 2: 46M1068; Supplier 3: Mouser; Supplier Part Number 3: 595-TL7770-5IDWRG4; Reset Threshold Accuracy(%): 2; Time Delay(ms): Programmable; Mounting Technology: Surface Mount; Code_JEDEC: MS-013-AA; ComponentLink1Description: Datasheet; ComponentLink1URL: http://www.ti.com/general/docs/lit/getliterature.tsp?genericPartNumber=TL7770-5&fileType=pdf
footprint DW16_N (SOIC, 16-Leads, Body 10.3x7.5mm, Pitch 1.27mm, IPC Medium Density)
footprint DW16_L (SOIC, 16-Leads, Body 10.3x7.5mm, Pitch 1.27mm, IPC High Density)
footprint DW16_M (SOIC, 16-Leads, Body 10.3x7.5mm, Pitch 1.27mm, IPC Low Density)
pins: 1 1~{RESIN} (in), 2 1CT (in), 3 1RESET (oe), 4 1~{RESET} (oc), 5 1VSU (power), 6 1VSO (power), 7 1SCR DRIVE (out), 8 GND (power), 9 2SCR DRIVE (out), 10 2VSO (power), 11 2VSU (power), 12 2~{RESET} (oc), 13 2RESET (oe), 14 2CT (in), 15 2~{RESIN} (in), 16 VCC (power)

## TL7770-12CDW
designator U?
Dual Power-Supply Supervisor, 12 V & Adjustable with Programmable Time Delay, 0 to 70 degC, 16-pin SOIC (DW), Green (RoHS & no Sb/Br); Manufacturer: Texas Instruments; PartNumber: TL7770-12CDW; # of supplies monitored: 2; Iq(Typ)(uA): 5000; Output Driver Type / Reset Output: Active-low, Open-drain; Rating: Military; SubFamily: Supervisor and Reset IC; Threshold Voltage 1 (typ)(Typ)(V): 10.9; Threshold Voltage 2 (typ)(Typ)(V): 1.5; VCC(Max)(V): 18; VCC(Min)(V): 3.5; DatasheetVersion: SLVS019F; PackageVersion: revG, Jan-2011; PackageReference: DW16; PackageDescription: 16-Pin Small Outline Integrated Circuit, 10.3 x 7.5 mm, Pitch 1.27 mm Pitch; Supplier 1: Digi-Key; Supplier Part Number 1: TL7770-12CDW-ND; Supplier 2: Newark; Supplier Part Number 2: 76C9384; Supplier 3: Mouser; Supplier Part Number 3: 595-TL7770-12CDW; Reset Threshold Accuracy(%): 2; Time Delay(ms): Programmable; Mounting Technology: Surface Mount; Code_JEDEC: MS-013-AA; ComponentLink1Description: Datasheet; ComponentLink1URL: http://www.ti.com/general/docs/lit/getliterature.tsp?genericPartNumber=TL7770-12&fileType=pdf
footprint DW16_N (SOIC, 16-Leads, Body 10.3x7.5mm, Pitch 1.27mm, IPC Medium Density)
footprint DW16_L (SOIC, 16-Leads, Body 10.3x7.5mm, Pitch 1.27mm, IPC High Density)
footprint DW16_M (SOIC, 16-Leads, Body 10.3x7.5mm, Pitch 1.27mm, IPC Low Density)
pins: 1 1~{RESIN} (in), 2 1CT (in), 3 1RESET (oe), 4 1~{RESET} (oc), 5 1VSU (power), 6 1VSO (power), 7 1SCR DRIVE (out), 8 GND (power), 9 2SCR DRIVE (out), 10 2VSO (power), 11 2VSU (power), 12 2~{RESET} (oc), 13 2RESET (oe), 14 2CT (in), 15 2~{RESIN} (in), 16 VCC (power)

## TL7770-12CDWE4
designator U?
Dual Power-Supply Supervisor, 12 V & Adjustable with Programmable Time Delay, 0 to 70 degC, 16-pin SOIC (DW), Green (RoHS & no Sb/Br); Manufacturer: Texas Instruments; PartNumber: TL7770-12CDWE4; # of supplies monitored: 2; Iq(Typ)(uA): 5000; Output Driver Type / Reset Output: Active-low, Open-drain; Rating: Military; SubFamily: Supervisor and Reset IC; Threshold Voltage 1 (typ)(Typ)(V): 10.9; Threshold Voltage 2 (typ)(Typ)(V): 1.5; VCC(Max)(V): 18; VCC(Min)(V): 3.5; DatasheetVersion: SLVS019F; PackageVersion: revG, Jan-2011; PackageReference: DW16; PackageDescription: 16-Pin Small Outline Integrated Circuit, 10.3 x 7.5 mm, Pitch 1.27 mm Pitch; Supplier 1: Digi-Key; Supplier Part Number 1: TL7770-12CDWE4-ND; Supplier 2: Newark; Supplier Part Number 2: 37K4615; Supplier 3: Mouser; Supplier Part Number 3: 595-TL7770-12CDWE4; Reset Threshold Accuracy(%): 2; Time Delay(ms): Programmable; Mounting Technology: Surface Mount; Code_JEDEC: MS-013-AA; ComponentLink1Description: Datasheet; ComponentLink1URL: http://www.ti.com/general/docs/lit/getliterature.tsp?genericPartNumber=TL7770-12&fileType=pdf
footprint DW16_N (SOIC, 16-Leads, Body 10.3x7.5mm, Pitch 1.27mm, IPC Medium Density)
footprint DW16_L (SOIC, 16-Leads, Body 10.3x7.5mm, Pitch 1.27mm, IPC High Density)
footprint DW16_M (SOIC, 16-Leads, Body 10.3x7.5mm, Pitch 1.27mm, IPC Low Density)
pins: 1 1~{RESIN} (in), 2 1CT (in), 3 1RESET (oe), 4 1~{RESET} (oc), 5 1VSU (power), 6 1VSO (power), 7 1SCR DRIVE (out), 8 GND (power), 9 2SCR DRIVE (out), 10 2VSO (power), 11 2VSU (power), 12 2~{RESET} (oc), 13 2RESET (oe), 14 2CT (in), 15 2~{RESIN} (in), 16 VCC (power)

## TL7770-12CDWG4
designator U?
Dual Power-Supply Supervisor, 12 V & Adjustable with Programmable Time Delay, 0 to 70 degC, 16-pin SOIC (DW), Green (RoHS & no Sb/Br); Manufacturer: Texas Instruments; PartNumber: TL7770-12CDWG4; # of supplies monitored: 2; Iq(Typ)(uA): 5000; Output Driver Type / Reset Output: Active-low, Open-drain; Rating: Military; SubFamily: Supervisor and Reset IC; Threshold Voltage 1 (typ)(Typ)(V): 10.9; Threshold Voltage 2 (typ)(Typ)(V): 1.5; VCC(Max)(V): 18; VCC(Min)(V): 3.5; DatasheetVersion: SLVS019F; PackageVersion: revG, Jan-2011; PackageReference: DW16; PackageDescription: 16-Pin Small Outline Integrated Circuit, 10.3 x 7.5 mm, Pitch 1.27 mm Pitch; Supplier 1: Digi-Key; Supplier Part Number 1: TL7770-12CDWG4-ND; Supplier 2: Newark; Supplier Part Number 2: 46M1063; Supplier 3: Mouser; Supplier Part Number 3: 595-TL7770-12CDWG4; Reset Threshold Accuracy(%): 2; Time Delay(ms): Programmable; Mounting Technology: Surface Mount; Code_JEDEC: MS-013-AA; ComponentLink1Description: Datasheet; ComponentLink1URL: http://www.ti.com/general/docs/lit/getliterature.tsp?genericPartNumber=TL7770-12&fileType=pdf
footprint DW16_N (SOIC, 16-Leads, Body 10.3x7.5mm, Pitch 1.27mm, IPC Medium Density)
footprint DW16_L (SOIC, 16-Leads, Body 10.3x7.5mm, Pitch 1.27mm, IPC High Density)
footprint DW16_M (SOIC, 16-Leads, Body 10.3x7.5mm, Pitch 1.27mm, IPC Low Density)
pins: 1 1~{RESIN} (in), 2 1CT (in), 3 1RESET (oe), 4 1~{RESET} (oc), 5 1VSU (power), 6 1VSO (power), 7 1SCR DRIVE (out), 8 GND (power), 9 2SCR DRIVE (out), 10 2VSO (power), 11 2VSU (power), 12 2~{RESET} (oc), 13 2RESET (oe), 14 2CT (in), 15 2~{RESIN} (in), 16 VCC (power)

## TL7770-12CDWR
designator U?
Dual Power-Supply Supervisor, 12 V & Adjustable with Programmable Time Delay, 0 to 70 degC, 16-pin SOIC (DW), Green (RoHS & no Sb/Br); Manufacturer: Texas Instruments; PartNumber: TL7770-12CDWR; # of supplies monitored: 2; Iq(Typ)(uA): 5000; Output Driver Type / Reset Output: Active-low, Open-drain; Rating: Military; SubFamily: Supervisor and Reset IC; Threshold Voltage 1 (typ)(Typ)(V): 10.9; Threshold Voltage 2 (typ)(Typ)(V): 1.5; VCC(Max)(V): 18; VCC(Min)(V): 3.5; DatasheetVersion: SLVS019F; PackageVersion: revG, Jan-2011; PackageReference: DW16; PackageDescription: 16-Pin Small Outline Integrated Circuit, 10.3 x 7.5 mm, Pitch 1.27 mm Pitch; Supplier 1: Digi-Key; Supplier Part Number 1: 296-12954-2-ND; Supplier 2: Digi-Key; Supplier Part Number 2: 296-12954-1-ND; Supplier 3: Digi-Key; Supplier Part Number 3: 296-12954-6-ND; Supplier 4: Newark; Supplier Part Number 4: 76C9385; Supplier 5: Mouser; Supplier Part Number 5: 595-TL7770-12CDWR; Reset Threshold Accuracy(%): 2; Time Delay(ms): Programmable; Mounting Technology: Surface Mount; Code_JEDEC: MS-013-AA; ComponentLink1Description: Datasheet; ComponentLink1URL: http://www.ti.com/general/docs/lit/getliterature.tsp?genericPartNumber=TL7770-12&fileType=pdf
footprint DW16_N (SOIC, 16-Leads, Body 10.3x7.5mm, Pitch 1.27mm, IPC Medium Density)
footprint DW16_L (SOIC, 16-Leads, Body 10.3x7.5mm, Pitch 1.27mm, IPC High Density)
footprint DW16_M (SOIC, 16-Leads, Body 10.3x7.5mm, Pitch 1.27mm, IPC Low Density)
pins: 1 1~{RESIN} (in), 2 1CT (in), 3 1RESET (oe), 4 1~{RESET} (oc), 5 1VSU (power), 6 1VSO (power), 7 1SCR DRIVE (out), 8 GND (power), 9 2SCR DRIVE (out), 10 2VSO (power), 11 2VSU (power), 12 2~{RESET} (oc), 13 2RESET (oe), 14 2CT (in), 15 2~{RESIN} (in), 16 VCC (power)

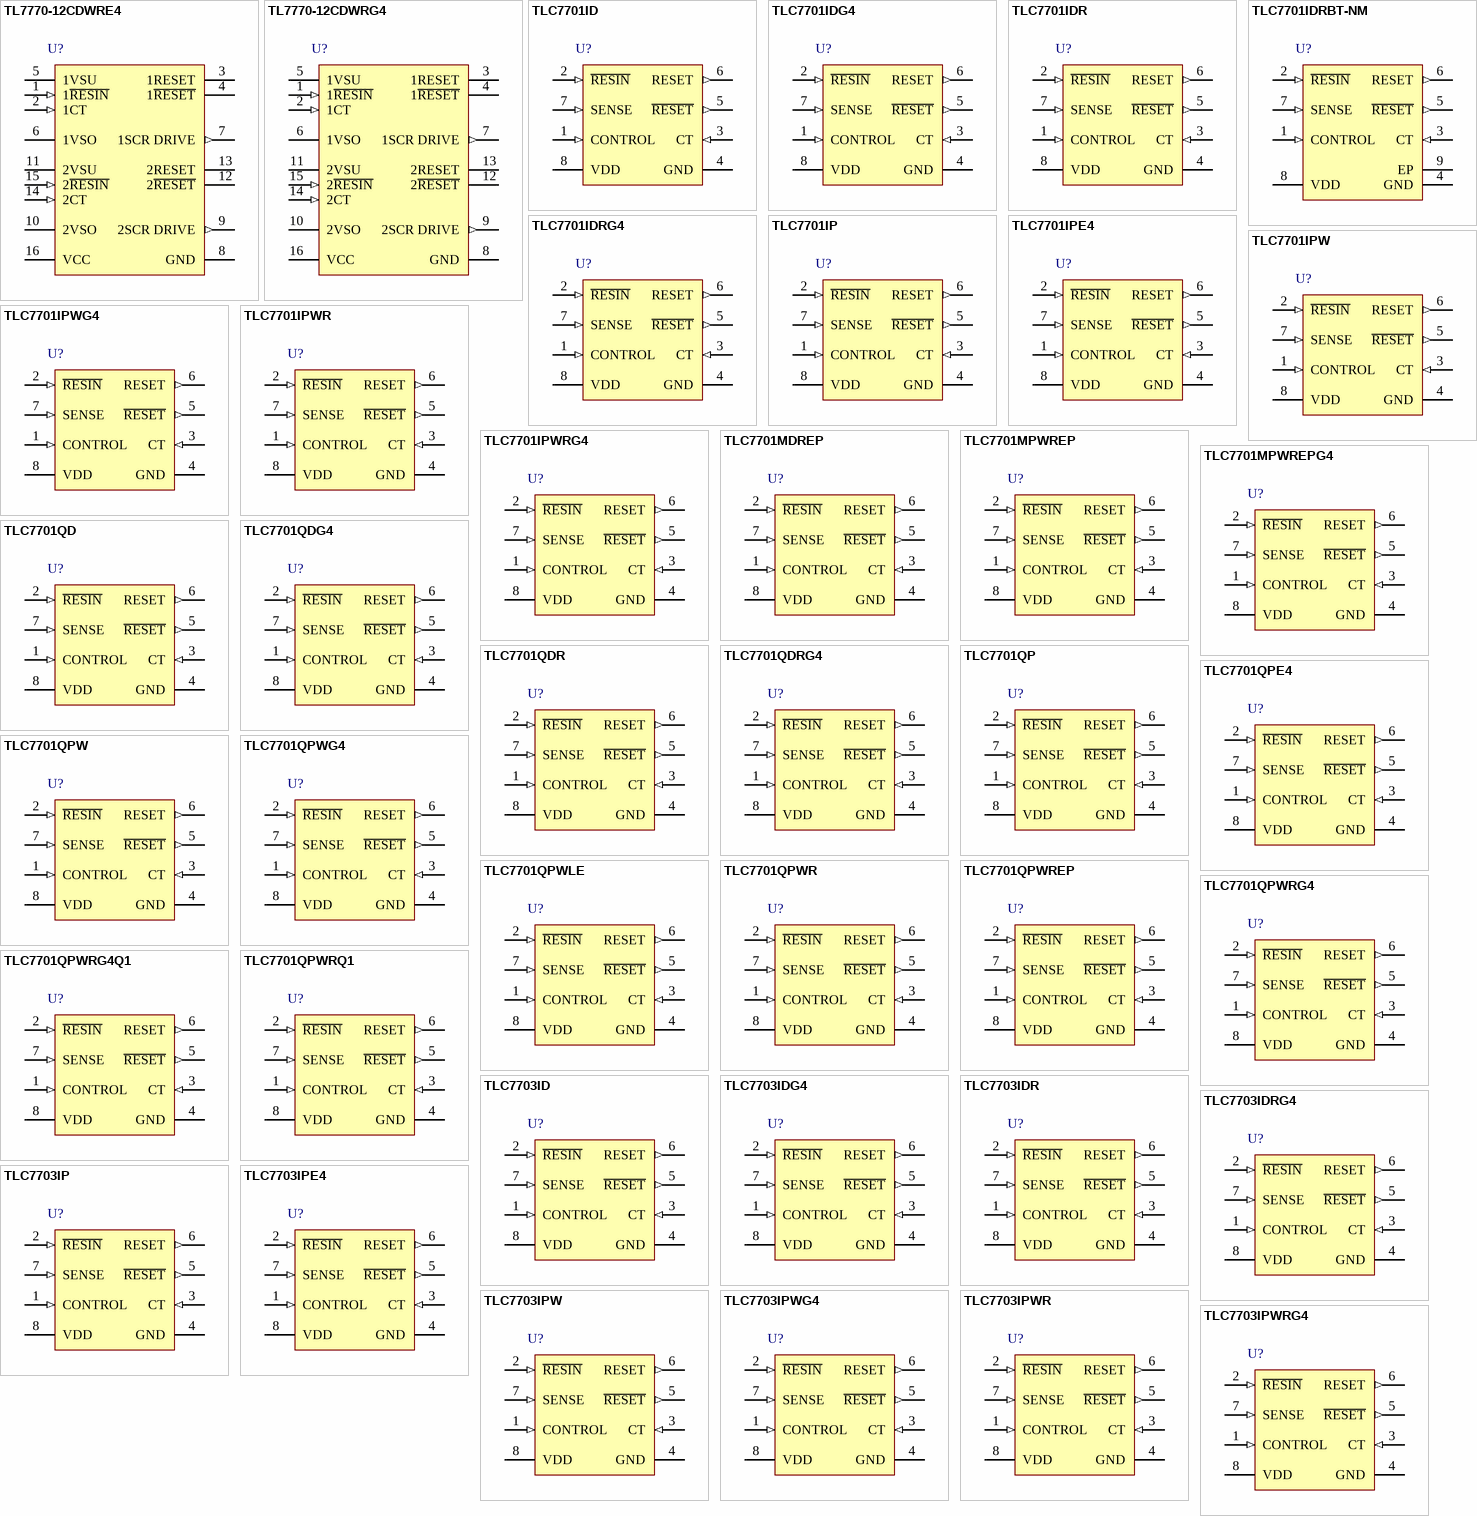
[diagram p5: symbols TL7770-12CDWRE4 to TLC7703IPWRG4]

## TL7770-12CDWRE4
designator U?
Dual Power-Supply Supervisor, 12 V & Adjustable with Programmable Time Delay, 0 to 70 degC, 16-pin SOIC (DW), Green (RoHS & no Sb/Br); Manufacturer: Texas Instruments; PartNumber: TL7770-12CDWRE4; # of supplies monitored: 2; Iq(Typ)(uA): 5000; Output Driver Type / Reset Output: Active-low, Open-drain; Rating: Military; SubFamily: Supervisor and Reset IC; Threshold Voltage 1 (typ)(Typ)(V): 10.9; Threshold Voltage 2 (typ)(Typ)(V): 1.5; VCC(Max)(V): 18; VCC(Min)(V): 3.5; DatasheetVersion: SLVS019F; PackageVersion: revG, Jan-2011; PackageReference: DW16; PackageDescription: 16-Pin Small Outline Integrated Circuit, 10.3 x 7.5 mm, Pitch 1.27 mm Pitch; Supplier 1: Digi-Key; Supplier Part Number 1: TL7770-12CDWRE4-ND; Supplier 2: Newark; Supplier Part Number 2: 37K4616; Supplier 3: Mouser; Supplier Part Number 3: 595-TL7770-12CDWRE4; Reset Threshold Accuracy(%): 2; Time Delay(ms): Programmable; Mounting Technology: Surface Mount; Code_JEDEC: MS-013-AA; ComponentLink1Description: Datasheet; ComponentLink1URL: http://www.ti.com/general/docs/lit/getliterature.tsp?genericPartNumber=TL7770-12&fileType=pdf
footprint DW16_N (SOIC, 16-Leads, Body 10.3x7.5mm, Pitch 1.27mm, IPC Medium Density)
footprint DW16_L (SOIC, 16-Leads, Body 10.3x7.5mm, Pitch 1.27mm, IPC High Density)
footprint DW16_M (SOIC, 16-Leads, Body 10.3x7.5mm, Pitch 1.27mm, IPC Low Density)
pins: 1 1~{RESIN} (in), 2 1CT (in), 3 1RESET (oe), 4 1~{RESET} (oc), 5 1VSU (power), 6 1VSO (power), 7 1SCR DRIVE (out), 8 GND (power), 9 2SCR DRIVE (out), 10 2VSO (power), 11 2VSU (power), 12 2~{RESET} (oc), 13 2RESET (oe), 14 2CT (in), 15 2~{RESIN} (in), 16 VCC (power)

## TL7770-12CDWRG4
designator U?
Dual Power-Supply Supervisor, 12 V & Adjustable with Programmable Time Delay, 0 to 70 degC, 16-pin SOIC (DW), Green (RoHS & no Sb/Br); Manufacturer: Texas Instruments; PartNumber: TL7770-12CDWRG4; # of supplies monitored: 2; Iq(Typ)(uA): 5000; Output Driver Type / Reset Output: Active-low, Open-drain; Rating: Military; SubFamily: Supervisor and Reset IC; Threshold Voltage 1 (typ)(Typ)(V): 10.9; Threshold Voltage 2 (typ)(Typ)(V): 1.5; VCC(Max)(V): 18; VCC(Min)(V): 3.5; DatasheetVersion: SLVS019F; PackageVersion: revG, Jan-2011; PackageReference: DW16; PackageDescription: 16-Pin Small Outline Integrated Circuit, 10.3 x 7.5 mm, Pitch 1.27 mm Pitch; Supplier 1: Digi-Key; Supplier Part Number 1: TL7770-12CDWRG4-ND; Supplier 2: Newark; Supplier Part Number 2: 46M1064; Supplier 3: Mouser; Supplier Part Number 3: 595-TL7770-12CDWRG4; Reset Threshold Accuracy(%): 2; Time Delay(ms): Programmable; Mounting Technology: Surface Mount; Code_JEDEC: MS-013-AA; ComponentLink1Description: Datasheet; ComponentLink1URL: http://www.ti.com/general/docs/lit/getliterature.tsp?genericPartNumber=TL7770-12&fileType=pdf
footprint DW16_N (SOIC, 16-Leads, Body 10.3x7.5mm, Pitch 1.27mm, IPC Medium Density)
footprint DW16_L (SOIC, 16-Leads, Body 10.3x7.5mm, Pitch 1.27mm, IPC High Density)
footprint DW16_M (SOIC, 16-Leads, Body 10.3x7.5mm, Pitch 1.27mm, IPC Low Density)
pins: 1 1~{RESIN} (in), 2 1CT (in), 3 1RESET (oe), 4 1~{RESET} (oc), 5 1VSU (power), 6 1VSO (power), 7 1SCR DRIVE (out), 8 GND (power), 9 2SCR DRIVE (out), 10 2VSO (power), 11 2VSU (power), 12 2~{RESET} (oc), 13 2RESET (oe), 14 2CT (in), 15 2~{RESIN} (in), 16 VCC (power)

## TLC7701ID
designator U?
Adjustable Single Supply Voltage Supervisor with Programmable Time Delay, 1 Supply Monitored, -40 to 85 degC, 8-pin SOIC (D), Green (RoHS & no Sb/Br); Manufacturer: Texas Instruments; PartNumber: TLC7701ID; # of supplies monitored: 1; Iq(Typ)(uA): 9; Output Driver Type / Reset Output: Active-low, Push-pull, Active-high, Push-pull; Rating: Catalog; Reset Threshold Accuracy(%): 5.5; SubFamily: Supervisor and Reset IC; VCC(Max)(V): 6; VCC(Min)(V): 2; DatasheetVersion: SLVS087M; PackageVersion: revM, Jun-2011; PackageReference: D8; PackageDescription: 8-Pin Plastic Small Outline Integrated Circuit, 4.9 x 3.9 mm, Pitch 1.27 mm Pitch; Supplier 1: Digi-Key; Supplier Part Number 1: 296-3268-5-ND; Supplier 2: Newark; Supplier Part Number 2: 74K3964; Supplier 3: Mouser; Supplier Part Number 3: 595-TLC7701ID; Threshold Voltage 1 (typ)(Typ)(V): Adjustable; Time Delay(ms): Programmable; Mounting Technology: Surface Mount; Code_JEDEC: MS-012AA; ComponentLink1Description: Datasheet; ComponentLink1URL: http://www.ti.com/general/docs/lit/getliterature.tsp?genericPartNumber=TLC7701&fileType=pdf
footprint D8_N (SOIC, 8-Leads, Body 4.9x3.9mm, Pitch 1.27mm, IPC Medium Density)
footprint D8_L (SOIC, 8-Leads, Body 4.9x3.9mm, Pitch 1.27mm, IPC High Density)
footprint D8_M (SOIC, 8-Leads, Body 4.9x3.9mm, Pitch 1.27mm, IPC Low Density)
pins: 1 CONTROL (in), 2 ~{RESIN} (in), 3 CT (in), 4 GND (power), 5 ~{RESET} (out), 6 RESET (out), 7 SENSE (in), 8 VDD (power)

## TLC7701IDG4
designator U?
Adjustable Single Supply Voltage Supervisor with Programmable Time Delay, 1 Supply Monitored, -40 to 85 degC, 8-pin SOIC (D), Green (RoHS & no Sb/Br); Manufacturer: Texas Instruments; PartNumber: TLC7701IDG4; # of supplies monitored: 1; Iq(Typ)(uA): 9; Output Driver Type / Reset Output: Active-low, Push-pull, Active-high, Push-pull; Rating: Catalog; Reset Threshold Accuracy(%): 5.5; SubFamily: Supervisor and Reset IC; VCC(Max)(V): 6; VCC(Min)(V): 2; DatasheetVersion: SLVS087M; PackageVersion: revM, Jun-2011; PackageReference: D8; PackageDescription: 8-Pin Plastic Small Outline Integrated Circuit, 4.9 x 3.9 mm, Pitch 1.27 mm Pitch; Supplier 1: Digi-Key; Supplier Part Number 1: TLC7701IDG4-ND; Supplier 2: Farnell; Supplier Part Number 2: 1207286; Supplier 3: Newark; Supplier Part Number 3: 24M8298; Supplier 4: Newark; Supplier Part Number 4: 54K1037; Supplier 5: Mouser; Supplier Part Number 5: 595-TLC7701IDG4; Threshold Voltage 1 (typ)(Typ)(V): Adjustable; Time Delay(ms): Programmable; Mounting Technology: Surface Mount; Code_JEDEC: MS-012AA; ComponentLink1Description: Datasheet; ComponentLink1URL: http://www.ti.com/general/docs/lit/getliterature.tsp?genericPartNumber=TLC7701&fileType=pdf
footprint D8_N (SOIC, 8-Leads, Body 4.9x3.9mm, Pitch 1.27mm, IPC Medium Density)
footprint D8_L (SOIC, 8-Leads, Body 4.9x3.9mm, Pitch 1.27mm, IPC High Density)
footprint D8_M (SOIC, 8-Leads, Body 4.9x3.9mm, Pitch 1.27mm, IPC Low Density)
pins: 1 CONTROL (in), 2 ~{RESIN} (in), 3 CT (in), 4 GND (power), 5 ~{RESET} (out), 6 RESET (out), 7 SENSE (in), 8 VDD (power)

## TLC7701IDR
designator U?
Adjustable Single Supply Voltage Supervisor with Programmable Time Delay, 1 Supply Monitored, -40 to 85 degC, 8-pin SOIC (D), Green (RoHS & no Sb/Br); Manufacturer: Texas Instruments; PartNumber: TLC7701IDR; # of supplies monitored: 1; Iq(Typ)(uA): 9; Output Driver Type / Reset Output: Active-low, Push-pull, Active-high, Push-pull; Rating: Catalog; Reset Threshold Accuracy(%): 5.5; SubFamily: Supervisor and Reset IC; VCC(Max)(V): 6; VCC(Min)(V): 2; DatasheetVersion: SLVS087M; PackageVersion: revM, Jun-2011; PackageReference: D8; PackageDescription: 8-Pin Plastic Small Outline Integrated Circuit, 4.9 x 3.9 mm, Pitch 1.27 mm Pitch; Supplier 1: Digi-Key; Supplier Part Number 1: 296-26764-2-ND; Supplier 2: Digi-Key; Supplier Part Number 2: 296-26764-1-ND; Supplier 3: Digi-Key; Supplier Part Number 3: 296-26764-6-ND; Supplier 4: Newark; Supplier Part Number 4: 76C7516; Supplier 5: Mouser; Supplier Part Number 5: 595-TLC7701IDR; Threshold Voltage 1 (typ)(Typ)(V): Adjustable; Time Delay(ms): Programmable; Mounting Technology: Surface Mount; Code_JEDEC: MS-012AA; ComponentLink1Description: Datasheet; ComponentLink1URL: http://www.ti.com/general/docs/lit/getliterature.tsp?genericPartNumber=TLC7701&fileType=pdf
footprint D8_N (SOIC, 8-Leads, Body 4.9x3.9mm, Pitch 1.27mm, IPC Medium Density)
footprint D8_L (SOIC, 8-Leads, Body 4.9x3.9mm, Pitch 1.27mm, IPC High Density)
footprint D8_M (SOIC, 8-Leads, Body 4.9x3.9mm, Pitch 1.27mm, IPC Low Density)
pins: 1 CONTROL (in), 2 ~{RESIN} (in), 3 CT (in), 4 GND (power), 5 ~{RESET} (out), 6 RESET (out), 7 SENSE (in), 8 VDD (power)

## TLC7701IDRBT-NM
designator U?
Adjustable Single Supply Voltage Supervisor with Programmable Time Delay, 1 Supply Monitored, -40 to 125 degC, 8-pin SON (DRB), Green (RoHS & no Sb/Br); Manufacturer: Texas Instruments; PartNumber: TLC7701IDRBT-NM; # of supplies monitored: 1; Iq(Typ)(uA): 9; Output Driver Type / Reset Output: Active-low, Push-pull, Active-high, Push-pull; Rating: Catalog; Reset Threshold Accuracy(%): 5.5; SubFamily: Supervisor and Reset IC; VCC(Max)(V): 6; VCC(Min)(V): 2; DatasheetVersion: SLVS087M; PackageVersion: revI, Sep-2010; PackageReference: DRB8-1750X1500TP; PackageDescription: 8-Pin Plastic Small Outline No-Lead, 3 x 3 x 1 mm Body, 0.65 mm Pitch, Exposed Pad; Supplier 1: Digi-Key; Supplier Part Number 1: TLC7701IDRBT-NM-ND; Supplier 2: Newark; Supplier Part Number 2: 92T2320; Supplier 3: Mouser; Supplier Part Number 3: 595-TLC7701IDRBT-NM; Threshold Voltage 1 (typ)(Typ)(V): Adjustable; Time Delay(ms): Programmable; Mounting Technology: Surface Mount; ComponentLink1Description: Datasheet; ComponentLink1URL: http://www.ti.com/general/docs/lit/getliterature.tsp?genericPartNumber=TLC7701&fileType=pdf
footprint DRB8-1750X1500TP (SON, 8-Leads, Body 3x3mm, Pitch 0.65mm, Thermal Pad 1.75x1.5mm, TI Recommended)
pins: 1 CONTROL (in), 2 ~{RESIN} (in), 3 CT (in), 4 GND (power), 5 ~{RESET} (out), 6 RESET (out), 7 SENSE (in), 8 VDD (power), 9 EP

## TLC7701IDRG4
designator U?
Adjustable Single Supply Voltage Supervisor with Programmable Time Delay, 1 Supply Monitored, -40 to 85 degC, 8-pin SOIC (D), Green (RoHS & no Sb/Br); Manufacturer: Texas Instruments; PartNumber: TLC7701IDRG4; # of supplies monitored: 1; Iq(Typ)(uA): 9; Output Driver Type / Reset Output: Active-low, Push-pull, Active-high, Push-pull; Rating: Catalog; Reset Threshold Accuracy(%): 5.5; SubFamily: Supervisor and Reset IC; VCC(Max)(V): 6; VCC(Min)(V): 2; DatasheetVersion: SLVS087M; PackageVersion: revM, Jun-2011; PackageReference: D8; PackageDescription: 8-Pin Plastic Small Outline Integrated Circuit, 4.9 x 3.9 mm, Pitch 1.27 mm Pitch; Supplier 1: Digi-Key; Supplier Part Number 1: TLC7701IDRG4-ND; Supplier 2: Newark; Supplier Part Number 2: 54K1038; Supplier 3: Mouser; Supplier Part Number 3: 595-TLC7701IDRG4; Threshold Voltage 1 (typ)(Typ)(V): Adjustable; Time Delay(ms): Programmable; Mounting Technology: Surface Mount; Code_JEDEC: MS-012AA; ComponentLink1Description: Datasheet; ComponentLink1URL: http://www.ti.com/general/docs/lit/getliterature.tsp?genericPartNumber=TLC7701&fileType=pdf
footprint D8_N (SOIC, 8-Leads, Body 4.9x3.9mm, Pitch 1.27mm, IPC Medium Density)
footprint D8_L (SOIC, 8-Leads, Body 4.9x3.9mm, Pitch 1.27mm, IPC High Density)
footprint D8_M (SOIC, 8-Leads, Body 4.9x3.9mm, Pitch 1.27mm, IPC Low Density)
pins: 1 CONTROL (in), 2 ~{RESIN} (in), 3 CT (in), 4 GND (power), 5 ~{RESET} (out), 6 RESET (out), 7 SENSE (in), 8 VDD (power)

## TLC7701IP
designator U?
Adjustable Single Supply Voltage Supervisor with Programmable Time Delay, 1 Supply Monitored, -40 to 85 degC, 8-pin PDIP (P), Pb-Free (RoHS); Manufacturer: Texas Instruments; PartNumber: TLC7701IP; # of supplies monitored: 1; Iq(Typ)(uA): 9; Output Driver Type / Reset Output: Active-low, Push-pull, Active-high, Push-pull; Rating: Catalog; Reset Threshold Accuracy(%): 5.5; SubFamily: Supervisor and Reset IC; VCC(Max)(V): 6; VCC(Min)(V): 2; DatasheetVersion: SLVS087M; PackageVersion: revE, Apr-2010; PackageReference: P8; PackageDescription: 8-Pin Plastic Dual-In-Line Package, Row Spacing 7.62 mm, Pitch 2.54 mm; Supplier 1: Digi-Key; Supplier Part Number 1: 296-2608-5-ND; Supplier 2: Newark; Supplier Part Number 2: 76C7517; Supplier 3: Mouser; Supplier Part Number 3: 595-TLC7701IP; Threshold Voltage 1 (typ)(Typ)(V): Adjustable; Time Delay(ms): Programmable; Mounting Technology: Through Hole; Code_JEDEC: MS-001-BA; ComponentLink1Description: Datasheet; ComponentLink1URL: http://www.ti.com/general/docs/lit/getliterature.tsp?genericPartNumber=TLC7701&fileType=pdf
footprint P8 (DIP, 8-Leads, Row Spacing 7.62mm, Pitch 2.54mm, Body 9.6x6.4mm)
pins: 1 CONTROL (in), 2 ~{RESIN} (in), 3 CT (in), 4 GND (power), 5 ~{RESET} (out), 6 RESET (out), 7 SENSE (in), 8 VDD (power)